# Altium footprint library PcbLib1.PcbLib: 1 footprints
Each footprint in its own frame and in the unit in brackets; x right, y up, seen from the top. Pads: shape width x height; smd on the part's side, far side on the other; paste and mask are expansions set on the pad; w line width, h text height; cw(c..) or ccw(c..) is an arc to the next point about the centre after c.
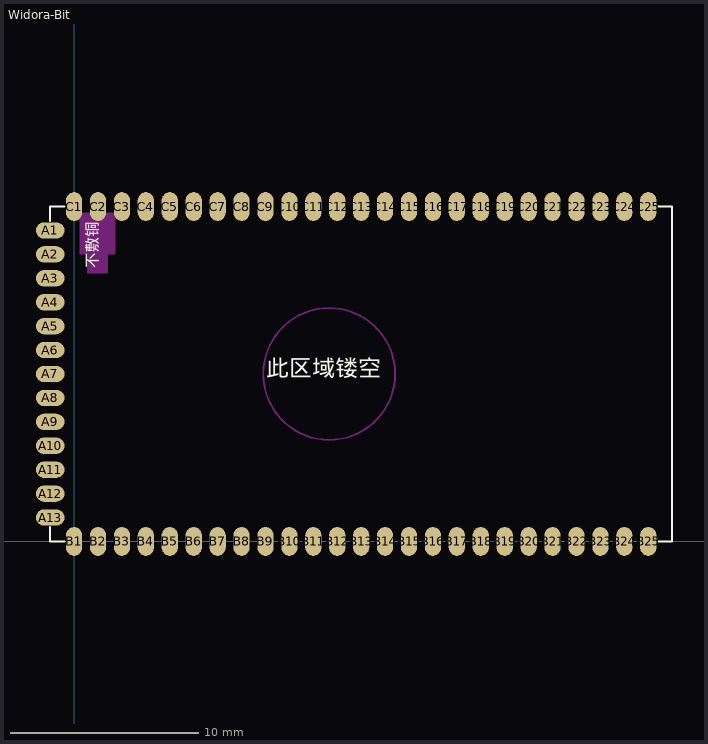
[diagram p0: the footprint, top view; thin cyan lines are the x and y axes]

## Widora-Bit [mil]
pads (63):
  oval 60x34 smd mask+2: A1(-50,650) A2(-50,600) A3(-50,550) A4(-50,500) A5(-50,450) A6(-50,400) A7(-50,350) A8(-50,300) A9(-50,250) A10(-50,200) A11(-50,150) A12(-50,100) A13(-50,50)
  oval 34x60 smd mask+2: B1(0,0) B2(50,0) B3(100,0) B4(150,0) B5(200,0) B6(250,0) B7(300,0) B8(350,0) B9(400,0) B10(450,0) B11(500,0) B12(550,0) B13(600,0) B14(650,0) B15(700,0) B16(750,0) B17(800,0) B18(850,0) B19(900,0) B20(950,0) B21(1000,0) B22(1050,0) B23(1100,0) B24(1150,0) B25(1200,0) C1(0,700) C2(50,700) C3(100,700) C4(150,700) C5(200,700) C6(250,700) C7(300,700) C8(350,700) C9(400,700) C10(450,700) C11(500,700) C12(550,700) C13(600,700) C14(650,700) C15(700,700) C16(750,700) C17(800,700) C18(850,700) C19(900,700) C20(950,700) C21(1000,700) C22(1050,700) C23(1100,700) C24(1150,700) C25(1200,700)
Top Overlay:
  lines w3.94: -50,30 -50,0 -20,0 ; -50,670 -50,700 -20,700 ; 1220,0 1250,0 1250,700 1220,700
  text "此区域镂空" at 402,334 h60
  text "不敷铜" at 58,571 h40
Keep-Out Layer:
  circle w3.94: c533.13,350.13 r137.8
  pour cut-out: 11.39,686.97 11.39,600.32 27.09,600.32 27.09,560.97 70.44,560.97 70.44,600.32 86.19,600.32 86.19,686.97